# Altium integrated library Holtek Semiconductor Motor Driver.IntLib: 2 symbols
Pins are listed as number, name and electrical type; pins without a type are passive.

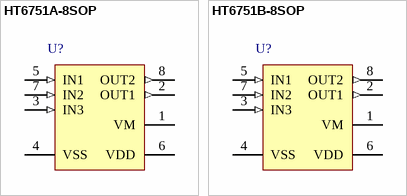
[diagram p0: symbols HT6751A-8SOP to HT6751B-8SOP]

## HT6751A-8SOP
designator U?
Camera Motor Driver, 8-Pin SOP; DatasheetVersion: Aug-2000; PackageVersion: 25/05/2010; PackageReference: 8SOP; PackageDescription: 8-Pin Small Outline Package, 150mil Wide, 1.27 mm Pitch; Code_JEDEC: MS-012; Code_IPC: SOIC127P600-8; ComponentLink1Description: Manufacturer URL; ComponentLink1URL: http://www.holtek.com/; ComponentLink2Description: Datasheet; ComponentLink2URL: http://www.holtek.com/pdf/consumer/6751.pdf; ComponentLink3Description: Package Specification; ComponentLink3URL: http://www.holtek.com/english/literature/package.pdf
footprint 8SOP_N (SOIC, 8-Leads, Body 4.9x3.9mm, Pitch 1.27mm, IPC Medium Density)
footprint 8SOP_L (SOIC, 8-Leads, Body 4.9x3.9mm, Pitch 1.27mm, IPC High Density)
footprint 8SOP_M (SOIC, 8-Leads, Body 4.9x3.9mm, Pitch 1.27mm, IPC Low Density)
pins: 1 VM, 2 OUT1 (out), 3 IN3 (in), 4 VSS (power), 5 IN1 (in), 6 VDD (power), 7 IN2 (in), 8 OUT2 (out)

## HT6751B-8SOP
designator U?
Camera Motor Driver, 8-Pin SOP; DatasheetVersion: Aug-2000; PackageVersion: 25/05/2010; PackageReference: 8SOP; PackageDescription: 8-Pin Small Outline Package, 150mil Wide, 1.27 mm Pitch; Code_JEDEC: MS-012; Code_IPC: SOIC127P600-8; ComponentLink1Description: Manufacturer URL; ComponentLink1URL: http://www.holtek.com/; ComponentLink2Description: Datasheet; ComponentLink2URL: http://www.holtek.com/pdf/consumer/6751.pdf; ComponentLink3Description: Package Specification; ComponentLink3URL: http://www.holtek.com/english/literature/package.pdf
footprint 8SOP_N (SOIC, 8-Leads, Body 4.9x3.9mm, Pitch 1.27mm, IPC Medium Density)
footprint 8SOP_L (SOIC, 8-Leads, Body 4.9x3.9mm, Pitch 1.27mm, IPC High Density)
footprint 8SOP_M (SOIC, 8-Leads, Body 4.9x3.9mm, Pitch 1.27mm, IPC Low Density)
pins: 1 VM, 2 OUT1 (out), 3 IN3 (in), 4 VSS (power), 5 IN1 (in), 6 VDD (power), 7 IN2 (in), 8 OUT2 (out)